# Altium schematic symbol library LDL1117S33R.SchLib: 1 symbol
Pins are listed as number, name and electrical type; pins without a type are passive.

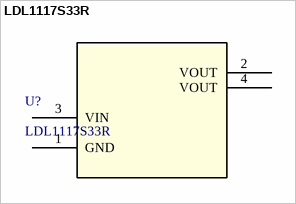
[diagram p0: symbol LDL1117S33R]

## LDL1117S33R
designator U?
1.2 A High PSRR low dropout linear voltage regulator; Manufacturer_Name: STMicroelectronics; Copyright: Copyright (C) 2025 Ultra Librarian. All rights reserved.; Manufacturer_Part_Number: LDL1117S33R; RefDes: RefDes; Type: Type
footprint SOT223_STM
pins: 1 GND (power), 2 VOUT (power), 3 VIN (power), 4 VOUT (power)